# Altium footprint library TS5A4624.PcbLib: 3 footprints
Each footprint in its own frame and in the unit in brackets; x right, y up, seen from the top. Pads: shape width x height; smd on the part's side, far side on the other; paste and mask are expansions set on the pad; w line width, h text height; cw(c..) or ccw(c..) is an arc to the next point about the centre after c.
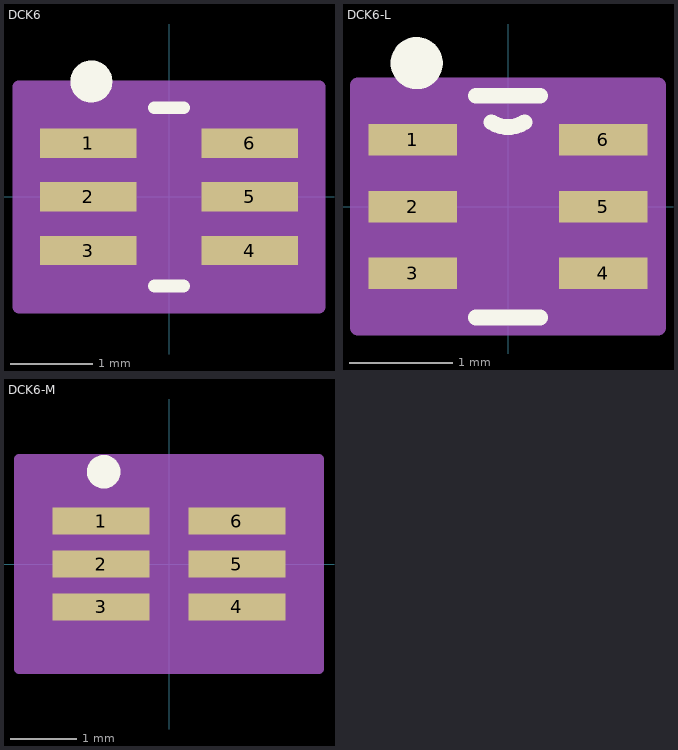
[diagram p0: the footprints below, top view; thin cyan lines are the x and y axes]

## DCK6 [mil]
pads (6):
  rect 46x14 smd: 1(-38.5,25.59) 2(-38.5,0) 3(-38.5,-25.59) 4(38.5,-25.59) 5(38.5,0) 6(38.5,25.59)
Top Overlay:
  circle w10: c-37,55 r5
  lines w6: -6.93,-42.5 6.93,-42.5 ; -6.93,42.5 6.93,42.5
Mechanical 13:
  lines w0: -12,42.5 ccw(c0,42.5) 12,42.5
Mechanical 15:
  region: 71.5,-52.5 -71.5,-52.5 -71.5,52.5 71.5,52.5
  lines w6: -71.5,-52.5 71.5,-52.5 71.5,52.5 -71.5,52.5 -71.5,-52.5
3D body "DCK6.stp": height 43.1, standoff 0, extent -47.5,-42.5 47.5,42.5

## DCK6-L [mil]
pads (6):
  rect 34x12 smd: 1(-36.5,25.59) 2(-36.5,0) 3(-36.5,-25.59) 4(36.5,-25.59) 5(36.5,0) 6(36.5,25.59)
Top Overlay:
  circle w10: c-35,55 r5
  lines w6: -12.25,-42.5 12.25,-42.5 ; -12.25,42.5 12.25,42.5 ; -6.42,32.36 ccw(c0,42.5) 6.42,32.36
Mechanical 13:
  lines w0: -12,42.5 ccw(c0,42.5) 12,42.5
Mechanical 15:
  region: 57.5,-46.5 -57.5,-46.5 -57.5,46.5 57.5,46.5
  lines w6: -57.5,-46.5 57.5,-46.5 57.5,46.5 -57.5,46.5 -57.5,-46.5
3D body "DCK6-L.stp": height 43.1, standoff 0, extent -47.5,-42.5 47.5,42.5

## DCK6-M [mil]
pads (6):
  rect 58x16 smd: 1(-40.5,25.59) 2(-40.5,0) 3(-40.5,-25.59) 4(40.5,-25.59) 5(40.5,0) 6(40.5,25.59)
Top Overlay:
  circle w10: c-39,55 r5
Mechanical 13:
  lines w0: -12,42.5 ccw(c0,42.5) 12,42.5
Mechanical 15:
  region: 89.5,-62.5 -89.5,-62.5 -89.5,62.5 89.5,62.5
  lines w6: -89.5,-62.5 -89.5,62.5 89.5,62.5 89.5,-62.5 -89.5,-62.5
3D body "DCK6-M.stp": height 43.1, standoff 0, extent -47.5,-42.5 47.5,42.5